# EAGLE library part MPU9250_CORRECTED (library invensense)
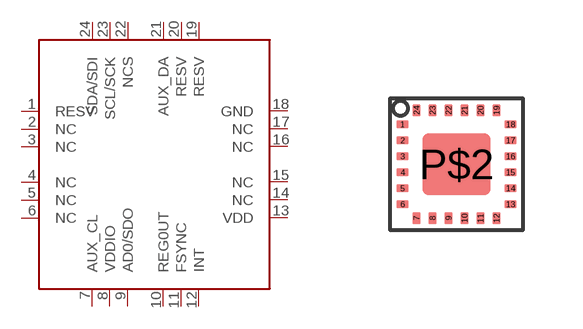
[diagram p2: symbol with the pads of 3X3_24_QFN_CORRECTED; footprint 3X3_24_QFN_CORRECTED]

Designator prefix -

## MPU9250_CORRECTED  [3X3_24_QFN_CORRECTED]
1  RESV
2  NC
3  NC
4  NC
5  NC
6  NC
7  AUX_CL
8  VDDIO
9  AD0/SDO
10  REG0UT
11  FSYNC
12  INT
13  VDD
14  NC
15  NC
16  NC
17  NC
18  GND
19  RESV
20  RESV
21  AUX_DA
22  NCS
23  SCL/SCK
24  SDA/SDI

## Footprint 3X3_24_QFN_CORRECTED (pad centres in mm)
smd 0.3 x 0.2: 1 -1.35,1; 2 -1.35,0.6; 3 -1.35,0.2; 4 -1.35,-0.2; 5 -1.35,-0.6; 6 -1.35,-1; 13 1.35,-1; 14 1.35,-0.6; 15 1.35,-0.2; 16 1.35,0.2; 17 1.35,0.6; 18 1.35,1
smd 0.2 x 0.3: 7 -1,-1.35; 8 -0.6,-1.35; 9 -0.2,-1.35; 10 0.2,-1.35; 11 0.6,-1.35; 12 1,-1.35; 19 1,1.35; 20 0.6,1.35; 21 0.2,1.35; 22 -0.2,1.35; 23 -0.6,1.35; 24 -1,1.35
smd 1.7 x 1.54: P$2 0,0